# EAGLE library part 2SMPP-03 (library pressure_omron)
2SMPP-02/03 MEMS Gauge Pressure Senser Featuring Small Size and Low Power Consumption • Superior electrical characteristics at -50 kPa to 50 kPa pressure range. Offset voltage of -2.5±4.0 mV Span voltage of 42.0±5.5 mV (At rated pressure 50 kPa, 100 µADC Current supply) • Small package 6.1 × 4.7 × 8.2 mm (L × W × H). • Good temperature dependency at 0 to 85°C, at rated pressure 0 to 50 kPa Temp. influence of span of ±3.0%FS Temp. influence of offset of ±5.0%FS (100 µADC Current supply) • Rated power consumption of 0.2 mW
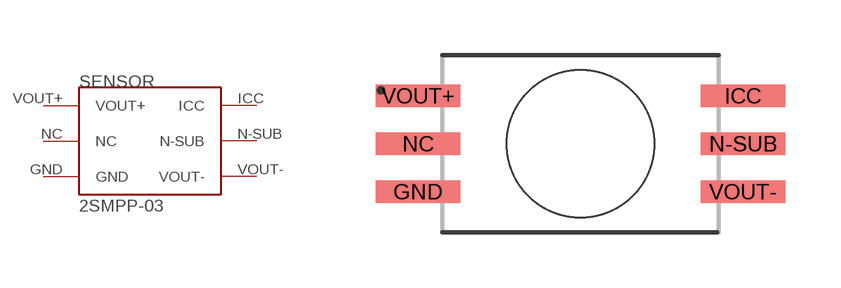
[diagram p0: symbol with the pads of 2SMPP-03; footprint 2SMPP-03]

Designator prefix SENSOR

## 2SMPP-03SMD  [2SMPP-03]
GND  GND
ICC  ICC  sup
N-SUB  N-SUB
NC  NC  nc
VOUT+  VOUT+  out
VOUT-  VOUT-  out

## Footprint 2SMPP-03 (pad centres in mm)
2SMPP-03 MEMS Gauge Pressure Senser Featuring Small Size and Low Power Consumption
smd 2.3 x 0.6: GND -4.4,-1.3; ICC 4.4,1.3; N-SUB 4.4,0; NC -4.4,0; VOUT+ -4.4,1.3; VOUT- 4.4,-1.3
hole 4 at 0,0